# Altium schematic symbol library shkb_lib.SchLib: 22 symbols
Pins are listed as number, name and electrical type; pins without a type are passive.

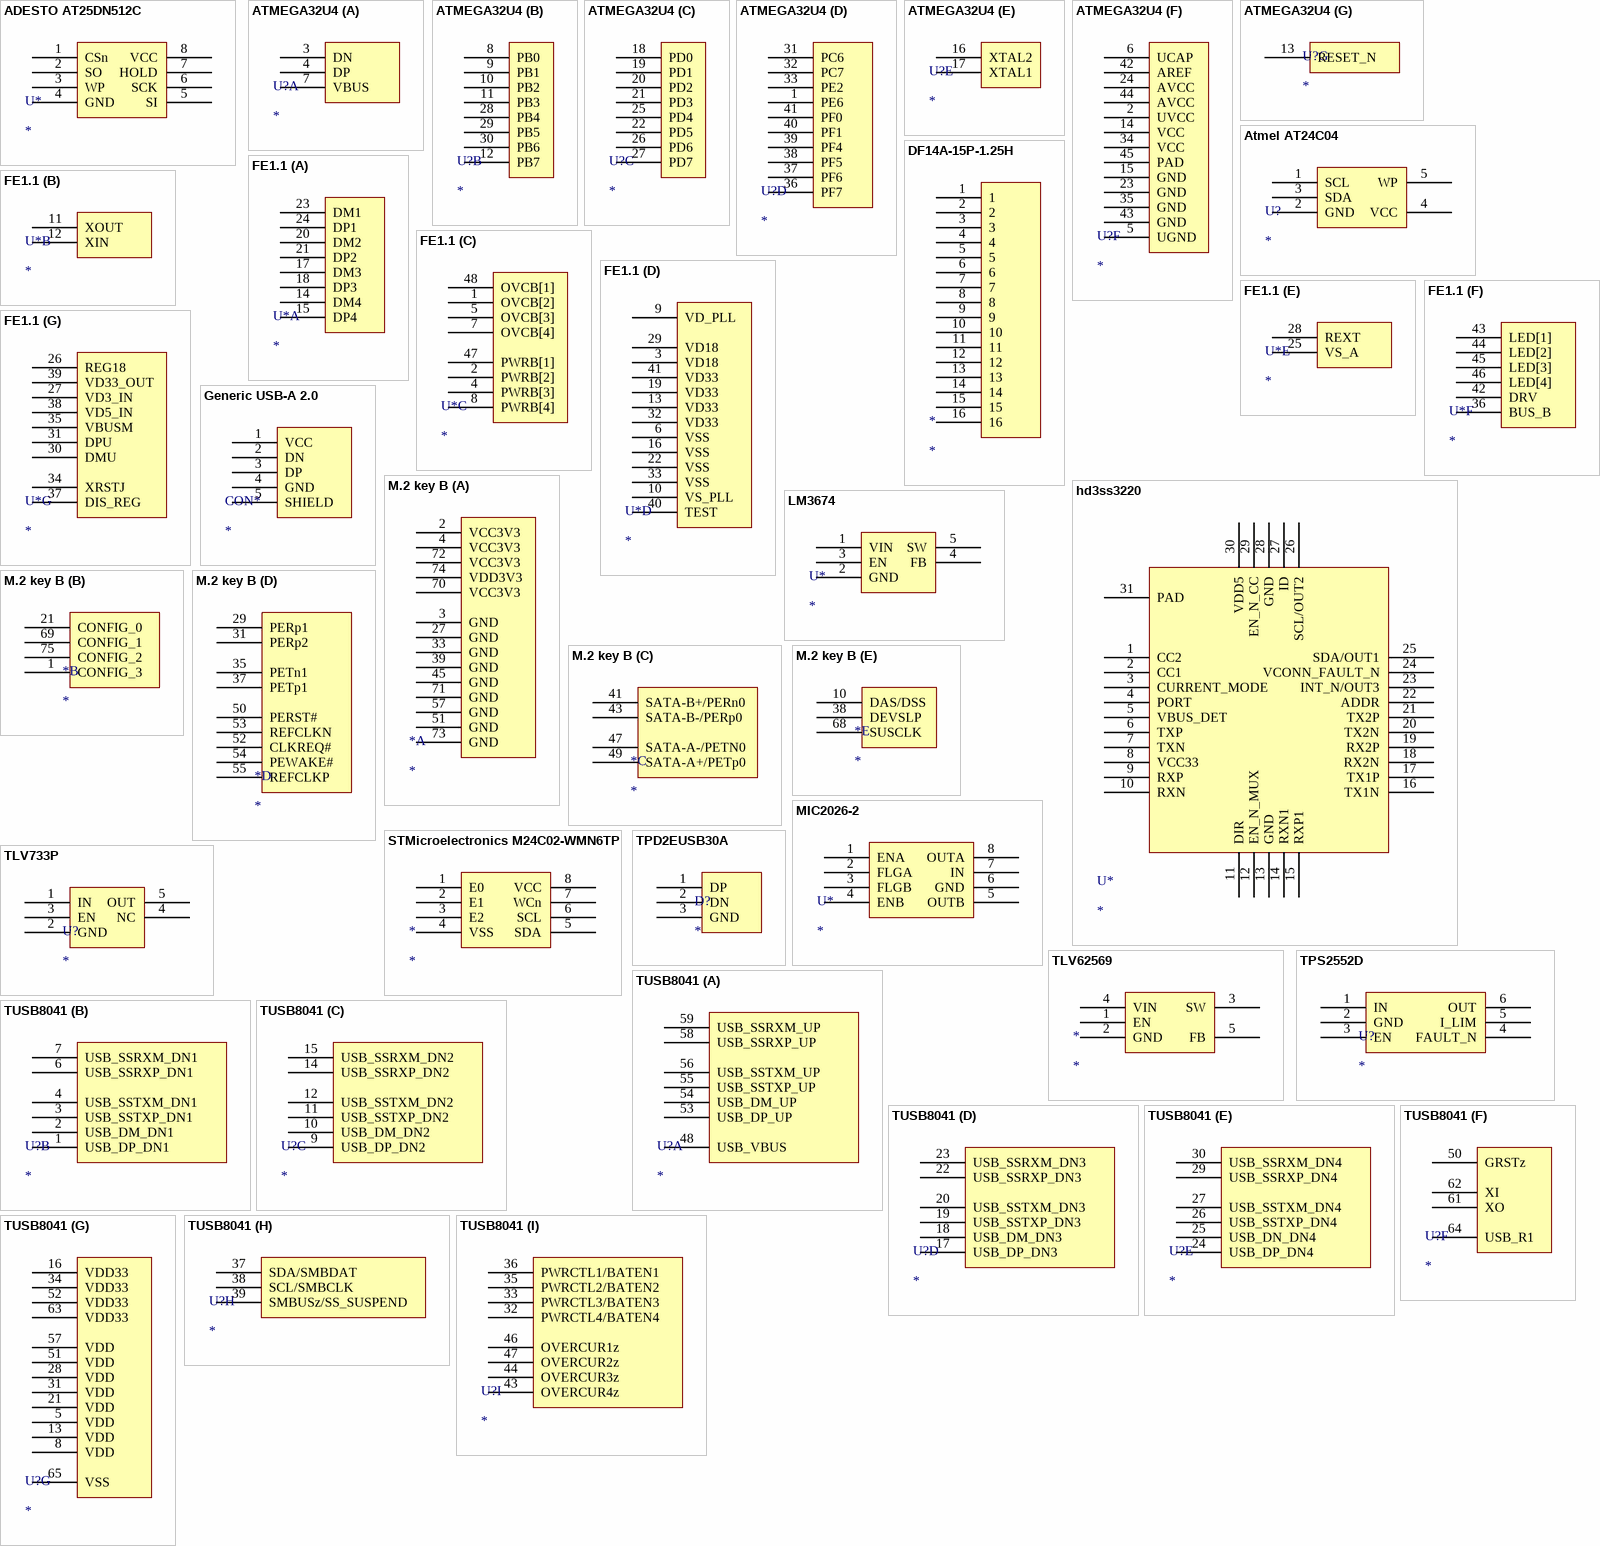
[diagram p0: symbols ADESTO AT25DN512C to TUSB8041]

## ADESTO AT25DN512C
designator U*
MFG: Adesto Technologies
footprint ADESTO AT25DN512C (SOIC, 8-Leads, Body 4,92x3,90mm, Pitch 1,27mm, IPC Medium Density)
pins: 1 CSn, 2 SO, 3 WP, 4 GND, 5 SI, 6 SCK, 7 HOLD, 8 VCC

## ATMEGA32U4
designator U?
footprint ATMEGA32U4
part A pins: 3 DN, 4 DP, 7 VBUS
part B pins: 8 PB0, 9 PB1, 10 PB2, 11 PB3, 12 PB7, 28 PB4, 29 PB5, 30 PB6
part C pins: 18 PD0, 19 PD1, 20 PD2, 21 PD3, 22 PD5, 25 PD4, 26 PD6, 27 PD7
part D pins: 1 PE6, 31 PC6, 32 PC7, 33 PE2, 36 PF7, 37 PF6, 38 PF5, 39 PF4, 40 PF1, 41 PF0
part E pins: 16 XTAL2, 17 XTAL1
part F pins: 2 UVCC, 5 UGND, 6 UCAP, 14 VCC, 15 GND, 23 GND, 24 AVCC, 34 VCC, 35 GND, 42 AREF, 43 GND, 44 AVCC, 45 PAD
part G pins: 13 RESET_N

## Atmel AT24C04
designator U?
MFGPN: AT24CS32-STUM-T; MFG: Microchip Technology
footprint SOT-23-5
pins: 1 SCL, 2 GND, 3 SDA, 4 VCC, 5 WP

## DF14A-15P-1.25H
designator *
footprint DF14A-15P-1.25H
pins: 1, 2, 3, 4, 5, 6, 7, 8, 9, 10, 11, 12, 13, 14, 15, 16

## FE1.1
designator U*
footprint FE1.1 LQFP48 (TSQFP, 48-Leads, Body 7.00x7.00mm, Pitch 0.50mm, IPC Medium Density)
part A pins: 14 DM4, 15 DP4, 17 DM3, 18 DP3, 20 DM2, 21 DP2, 23 DM1, 24 DP1
part B pins: 11 XOUT, 12 XIN
part C pins: 1 OVCB[2], 2 PWRB[2], 4 PWRB[3], 5 OVCB[3], 7 OVCB[4], 8 PWRB[4], 47 PWRB[1], 48 OVCB[1]
part D pins: 3 VD18, 6 VSS, 9 VD_PLL, 10 VS_PLL, 13 VD33, 16 VSS, 19 VD33, 22 VSS, 29 VD18, 32 VD33, 33 VSS, 40 TEST, 41 VD33
part E pins: 25 VS_A, 28 REXT
part F pins: 36 BUS_B, 42 DRV, 43 LED[1], 44 LED[2], 45 LED[3], 46 LED[4]
part G pins: 26 REG18, 27 VD3_IN, 30 DMU, 31 DPU, 34 XRSTJ, 35 VBUSM, 37 DIS_REG, 38 VD5_IN, 39 VD33_OUT

## Generic USB-A 2.0
designator CON*
footprint Jing 903-231A2031S10100 (C42646)
pins: 1 VCC, 2 DN, 3 DP, 4 GND, 5 SHIELD

## hd3ss3220
designator U*
MFG: Texas Instruments; MFGPN: HD3SS3220RNHR
footprint hd3ss3220
pins: 1 CC2, 2 CC1, 3 CURRENT_MODE, 4 PORT, 5 VBUS_DET, 6 TXP, 7 TXN, 8 VCC33, 9 RXP, 10 RXN, 11 DIR, 12 EN_N_MUX, 13 GND, 14 RXN1, 15 RXP1, 16 TX1N, 17 TX1P, 18 RX2N, 19 RX2P, 20 TX2N, 21 TX2P, 22 ADDR, 23 INT_N/OUT3, 24 VCONN_FAULT_N, 25 SDA/OUT1, 26 SCL/OUT2, 27 ID, 28 GND, 29 EN_N_CC, 30 VDD5, 31 PAD

## LM3674
designator U*
footprint SOT-23-5
pins: 1 VIN, 2 GND, 3 EN, 4 FB, 5 SW

## M.2 key B
designator *
footprint Amphenol 10128796
part A pins: 2 VCC3V3, 3 GND, 4 VCC3V3, 27 GND, 33 GND, 39 GND, 45 GND, 51 GND, 57 GND, 70 VCC3V3, 71 GND, 72 VCC3V3, 73 GND, 74 VDD3V3
part B pins: 1 CONFIG_3, 21 CONFIG_0, 69 CONFIG_1, 75 CONFIG_2
part C pins: 41 SATA-B+/PERn0, 43 SATA-B-/PERp0, 47 SATA-A-/PETN0, 49 SATA-A+/PETp0
part D pins: 29 PERp1, 31 PERp2, 35 PETn1, 37 PETp1, 50 PERST#, 52 CLKREQ#, 53 REFCLKN, 54 PEWAKE#, 55 REFCLKP
part E pins: 10 DAS/DSS, 38 DEVSLP, 68 SUSCLK

## MIC2026-2
designator U*
footprint SOIC-8 (Based on AT24C256C datasheet)
pins: 1 ENA, 2 FLGA, 3 FLGB, 4 ENB, 5 OUTB, 6 GND, 7 IN, 8 OUTA

## STMicroelectronics M24C02-WMN6TP
designator *
footprint STMicroelectronics M24C02-WMN6TP (SOP, 8-Leads, Body 4.90x3.90mm, Pitch 1.27mm, IPC Medium Density)
pins: 1 E0, 2 E1, 3 E2, 4 VSS, 5 SDA, 6 SCL, 7 WCn, 8 VCC

## TLV733P
designator U?
footprint SOT-23-5
pins: 1 IN, 2 GND, 3 EN, 4 NC, 5 OUT

## TLV62569
designator *
footprint SOT-23-5
pins: 1 EN, 2 GND, 3 SW, 4 VIN, 5 FB

## TPD2EUSB30A
designator D?
footprint TPD2EUSB30A (SOTFL, 3-Leads, Body 1.00x1.00mm, Pitch 0.35mm, IPC Medium Density)
pins: 1 DP, 2 DN, 3 GND

## TPS2552D
designator U?
footprint SOT-23-6
pins: 1 IN, 2 GND, 3 EN, 4 FAULT_N, 5 I_LIM, 6 OUT

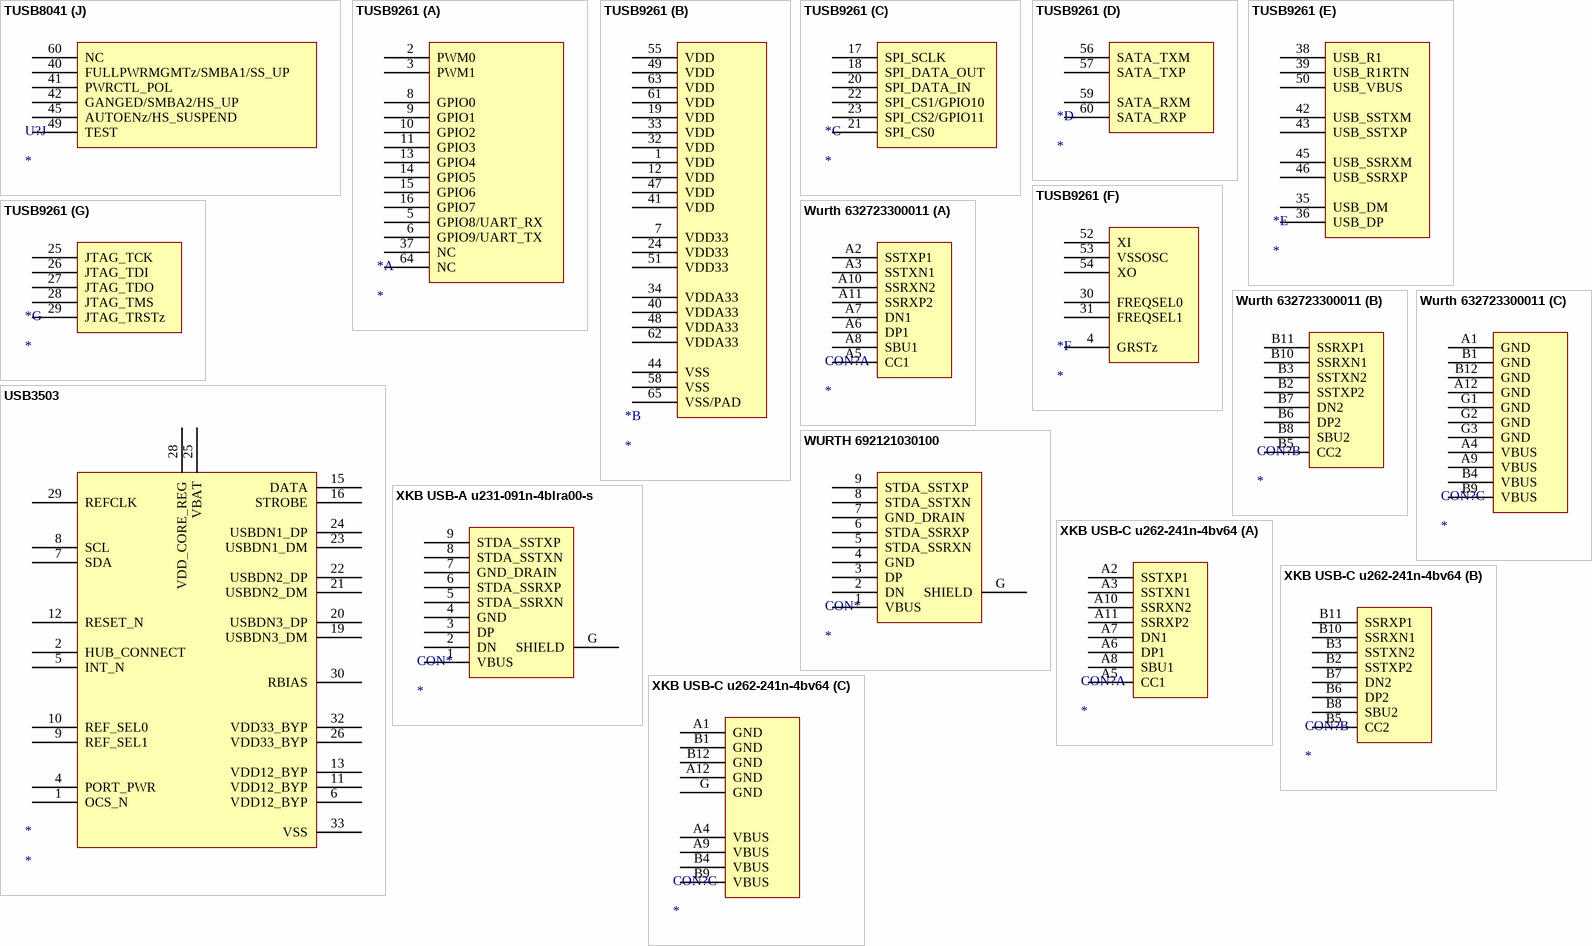
[diagram p1: symbols TUSB8041 to XKB USB-C u262-241n-4bv64]

## TUSB8041
designator U?
footprint TUSB8041_VQFN
part A pins: 48 USB_VBUS, 53 USB_DP_UP, 54 USB_DM_UP, 55 USB_SSTXP_UP, 56 USB_SSTXM_UP, 58 USB_SSRXP_UP, 59 USB_SSRXM_UP
part B pins: 1 USB_DP_DN1, 2 USB_DM_DN1, 3 USB_SSTXP_DN1, 4 USB_SSTXM_DN1, 6 USB_SSRXP_DN1, 7 USB_SSRXM_DN1
part C pins: 9 USB_DP_DN2, 10 USB_DM_DN2, 11 USB_SSTXP_DN2, 12 USB_SSTXM_DN2, 14 USB_SSRXP_DN2, 15 USB_SSRXM_DN2
part D pins: 17 USB_DP_DN3, 18 USB_DM_DN3, 19 USB_SSTXP_DN3, 20 USB_SSTXM_DN3, 22 USB_SSRXP_DN3, 23 USB_SSRXM_DN3
part E pins: 24 USB_DP_DN4, 25 USB_DN_DN4, 26 USB_SSTXP_DN4, 27 USB_SSTXM_DN4, 29 USB_SSRXP_DN4, 30 USB_SSRXM_DN4
part F pins: 50 GRSTz, 61 XO, 62 XI, 64 USB_R1
part G pins: 5 VDD, 8 VDD, 13 VDD, 16 VDD33, 21 VDD, 28 VDD, 31 VDD, 34 VDD33, 51 VDD, 52 VDD33, 57 VDD, 63 VDD33, 65 VSS
part H pins: 37 SDA/SMBDAT, 38 SCL/SMBCLK, 39 SMBUSz/SS_SUSPEND
part I pins: 32 PWRCTL4/BATEN4, 33 PWRCTL3/BATEN3, 35 PWRCTL2/BATEN2, 36 PWRCTL1/BATEN1, 43 OVERCUR4z, 44 OVERCUR3z, 46 OVERCUR1z, 47 OVERCUR2z
part J pins: 40 FULLPWRMGMTz/SMBA1/SS_UP, 41 PWRCTL_POL, 42 GANGED/SMBA2/HS_UP, 45 AUTOENz/HS_SUSPEND, 49 TEST, 60 NC

## TUSB9261
designator *
footprint TUSB9261
part A pins: 2 PWM0, 3 PWM1, 5 GPIO8/UART_RX, 6 GPIO9/UART_TX, 8 GPIO0, 9 GPIO1, 10 GPIO2, 11 GPIO3, 13 GPIO4, 14 GPIO5, 15 GPIO6, 16 GPIO7, 37 NC, 64 NC
part B pins: 1 VDD, 7 VDD33, 12 VDD, 19 VDD, 24 VDD33, 32 VDD, 33 VDD, 34 VDDA33, 40 VDDA33, 41 VDD, 44 VSS, 47 VDD, 48 VDDA33, 49 VDD, 51 VDD33, 55 VDD, 58 VSS, 61 VDD, 62 VDDA33, 63 VDD, 65 VSS/PAD
part C pins: 17 SPI_SCLK, 18 SPI_DATA_OUT, 20 SPI_DATA_IN, 21 SPI_CS0, 22 SPI_CS1/GPIO10, 23 SPI_CS2/GPIO11
part D pins: 56 SATA_TXM, 57 SATA_TXP, 59 SATA_RXM, 60 SATA_RXP
part E pins: 35 USB_DM, 36 USB_DP, 38 USB_R1, 39 USB_R1RTN, 42 USB_SSTXM, 43 USB_SSTXP, 45 USB_SSRXM, 46 USB_SSRXP, 50 USB_VBUS
part F pins: 4 GRSTz, 30 FREQSEL0, 31 FREQSEL1, 52 XI, 53 VSSOSC, 54 XO
part G pins: 25 JTAG_TCK, 26 JTAG_TDI, 27 JTAG_TDO, 28 JTAG_TMS, 29 JTAG_TRSTz

## USB3503
designator *
footprint QFN32 (From microchip USB3503)
pins: 1 OCS_N, 2 HUB_CONNECT, 4 PORT_PWR, 5 INT_N, 6 VDD12_BYP, 7 SDA, 8 SCL, 9 REF_SEL1, 10 REF_SEL0, 11 VDD12_BYP, 12 RESET_N, 13 VDD12_BYP, 15 DATA, 16 STROBE, 19 USBDN3_DM, 20 USBDN3_DP, 21 USBDN2_DM, 22 USBDN2_DP, 23 USBDN1_DM, 24 USBDN1_DP, 25 VBAT, 26 VDD33_BYP, 28 VDD_CORE_REG, 29 REFCLK, 30 RBIAS, 32 VDD33_BYP, 33 VSS

## Wurth 632723300011
designator CON?, comment for up to 1.6mm pcb  (value not drawn)
MFGPN: 632723300011; MFG: Wurth Electronics; Comment_1: *
footprint Wurth 632723300011
part A pins: A2 SSTXP1, A3 SSTXN1, A5 CC1, A6 DP1, A7 DN1, A8 SBU1, A10 SSRXN2, A11 SSRXP2
part B pins: B2 SSTXP2, B3 SSTXN2, B5 CC2, B6 DP2, B7 DN2, B8 SBU2, B10 SSRXN1, B11 SSRXP1
part C pins: A1 GND, A4 VBUS, A9 VBUS, A12 GND, B1 GND, B4 VBUS, B9 VBUS, B12 GND, G1 GND, G2 GND, G3 GND

## WURTH 692121030100
designator CON*
MFGPN: 692121030100; MFG: Wurth Electronics Inc
footprint WURTH 692121030100
pins: 1 VBUS, 2 DN, 3 DP, 4 GND, 5 STDA_SSRXN, 6 STDA_SSRXP, 7 GND_DRAIN, 8 STDA_SSTXN, 9 STDA_SSTXP, G SHIELD

## XKB USB-A u231-091n-4blra00-s
designator CON*
MFGPN: 692121030100; MFG: Wurth Electronics Inc
footprint XKB USB-A u231-091n-4blra00-s
pins: 1 VBUS, 2 DN, 3 DP, 4 GND, 5 STDA_SSRXN, 6 STDA_SSRXP, 7 GND_DRAIN, 8 STDA_SSTXN, 9 STDA_SSTXP, G SHIELD

## XKB USB-C u262-241n-4bv64
designator CON?, comment for up to 1.6mm pcb  (value not drawn)
MFGPN: 632723300011; MFG: Wurth Electronics; Comment_1: *
footprint XKB USB-C u262-241n-4bv64
part A pins: A2 SSTXP1, A3 SSTXN1, A5 CC1, A6 DP1, A7 DN1, A8 SBU1, A10 SSRXN2, A11 SSRXP2
part B pins: B2 SSTXP2, B3 SSTXN2, B5 CC2, B6 DP2, B7 DN2, B8 SBU2, B10 SSRXN1, B11 SSRXP1
part C pins: A1 GND, A4 VBUS, A9 VBUS, A12 GND, B1 GND, B4 VBUS, B9 VBUS, B12 GND, G GND